# Altium footprint library BC847BLT1G.PcbLib: 3 footprints
Each footprint in its own frame and in the unit in brackets; x right, y up, seen from the top. Pads: shape width x height; smd on the part's side, far side on the other; paste and mask are expansions set on the pad; w line width, h text height; cw(c..) or ccw(c..) is an arc to the next point about the centre after c.
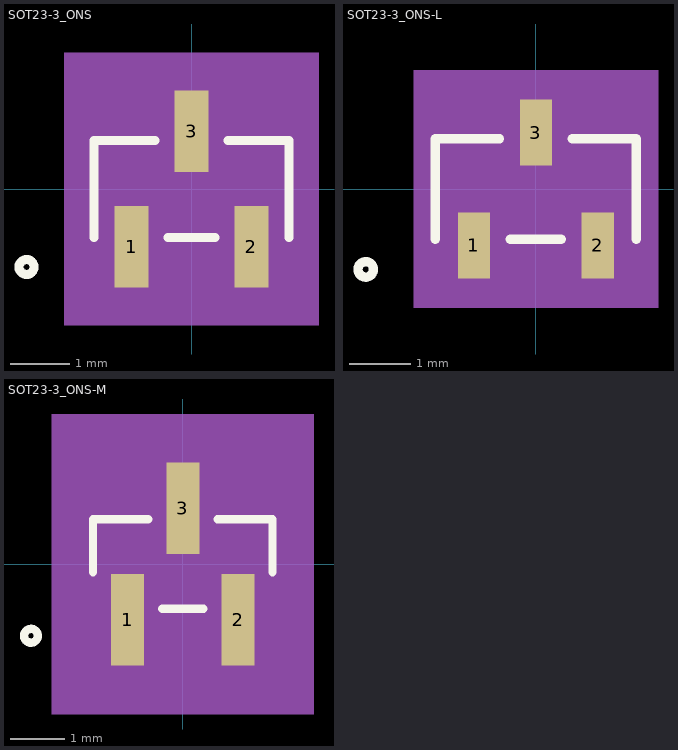
[diagram p0: the footprints below, top view; thin cyan lines are the x and y axes]

## SOT23-3_ONS [mil]
pads (3):
  rect 22.36x54.56 smd paste+0 mask+0: 1(-40,-38.5) 2(40,-38.5) 3(0,38.5)
Top Overlay:
  circle w6: c-110,-52 r5
  lines w6: -65,-32.5 -65,32.5 -24.28,32.5 ; -15.72,-32.5 15.72,-32.5 ; 24.28,32.5 65,32.5 65,-32.5
Mechanical 5:
  region: -85,90.78 85,90.78 85,-90.78 -85,-90.78
Mechanical 13:
  circle w0: c-50,-17.5 r5
  lines w1: -60,-27.5 60,-27.5 60,27.5 -60,27.5 -60,-27.5 ; -50,-52 -50,-27.5 -30,-27.5 -30,-52 -50,-52 ; -10,27.5 10,27.5 10,52 -10,52 -10,27.5 ; 30,-52 30,-27.5 50,-27.5 50,-52 30,-52
Mechanical 15:
  region: -70,-37.5 -70,37.5 -21.18,37.5 -21.18,75.78 21.18,75.78 21.18,37.5 70,37.5 70,-37.5 61.18,-37.5 61.18,-75.78 -61.18,-75.78 -61.18,-37.5
  region: 60,-27.5 -60,-27.5 -60,27.5 60,27.5
  lines w6: -70,-37.5 -70,37.5 -21.18,37.5 -21.18,75.78 21.18,75.78 21.18,37.5 70,37.5 70,-37.5 61.18,-37.5 61.18,-75.78 -61.18,-75.78 -61.18,-37.5 -70,-37.5
3D body "SOT23-3_ONS.step": height 44.09, standoff 0, extent -60,-52.01 60,52.01

## SOT23-3_ONS-L [mil]
pads (3):
  rect 20.79x42.75 smd paste+0 mask+0: 1(-40,-36.53) 2(40,-36.53) 3(0,36.53)
Top Overlay:
  circle w6: c-110,-52 r5
  lines w6: -65,-32.5 -65,32.5 -23.49,32.5 ; -16.51,-32.5 16.51,-32.5 ; 23.49,32.5 65,32.5 65,-32.5
Mechanical 5:
  region: -79,76.91 79,76.91 79,-76.91 -79,-76.91
Mechanical 13:
  circle w0: c-50,-17.5 r5
  lines w1: -60,-27.5 60,-27.5 60,27.5 -60,27.5 -60,-27.5 ; -50,-52 -50,-27.5 -30,-27.5 -30,-52 -50,-52 ; -10,27.5 10,27.5 10,52 -10,52 -10,27.5 ; 30,-52 30,-27.5 50,-27.5 50,-52 30,-52
Mechanical 15:
  region: -64,-31.5 -64,31.5 -14.39,31.5 -14.39,61.91 14.39,61.91 14.39,31.5 64,31.5 64,-31.5 54.39,-31.5 54.39,-61.91 -54.39,-61.91 -54.39,-31.5
  region: 60,-27.5 -60,-27.5 -60,27.5 60,27.5
  lines w6: -64,-31.5 -64,31.5 -14.39,31.5 -14.39,61.91 14.39,61.91 14.39,31.5 64,31.5 64,-31.5 54.39,-31.5 54.39,-61.91 -54.39,-61.91 -54.39,-31.5 -64,-31.5
3D body "SOT23-3_ONS.step": height 44.09, standoff 0, extent -60,-52.01 60,52.01

## SOT23-3_ONS-M [mil]
pads (3):
  rect 23.94x66.37 smd paste+0 mask+0: 1(-40,-40.47) 2(40,-40.47) 3(0,40.47)
Top Overlay:
  circle w6: c-110,-52 r5
  lines w6: -65,-5.95 -65,32.5 -25.07,32.5 ; -14.93,-32.5 14.93,-32.5 ; 25.07,32.5 65,32.5 65,-5.95
Mechanical 5:
  region: -95,108.65 95,108.65 95,-108.65 -95,-108.65
Mechanical 13:
  circle w0: c-50,-17.5 r5
  lines w1: -60,-27.5 60,-27.5 60,27.5 -60,27.5 -60,-27.5 ; -50,-52 -50,-27.5 -30,-27.5 -30,-52 -50,-52 ; -10,27.5 10,27.5 10,52 -10,52 -10,27.5 ; 30,-52 30,-27.5 50,-27.5 50,-52 30,-52
Mechanical 15:
  region: -80,-47.5 -80,47.5 -31.97,47.5 -31.97,93.65 31.97,93.65 31.97,47.5 80,47.5 80,-47.5 71.97,-47.5 71.97,-93.65 -71.97,-93.65 -71.97,-47.5
  region: 60,-27.5 -60,-27.5 -60,27.5 60,27.5
  lines w6: -80,-47.5 -80,47.5 -31.97,47.5 -31.97,93.65 31.97,93.65 31.97,47.5 80,47.5 80,-47.5 71.97,-47.5 71.97,-93.65 -71.97,-93.65 -71.97,-47.5 -80,-47.5
3D body "SOT23-3_ONS.step": height 44.09, standoff 0, extent -60,-52.01 60,52.01